# EAGLE library part ATTINY13 (library Kunosheru)
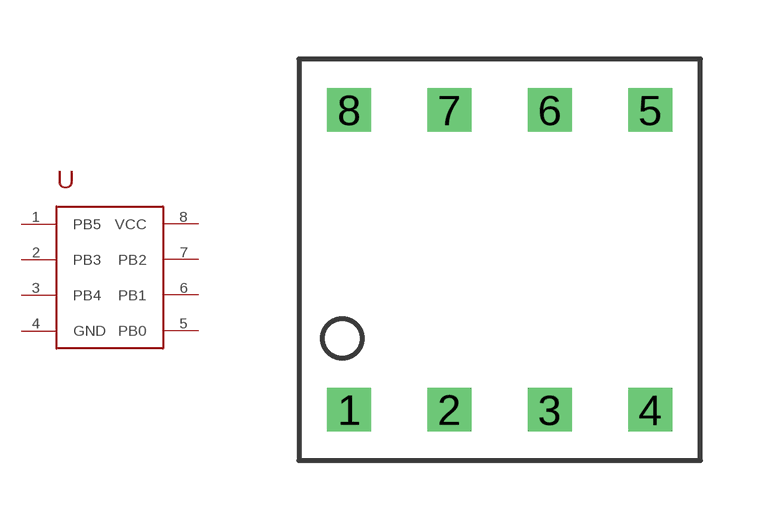
[diagram p2: symbol with the pads of SCS-8(DIP-8); footprint SCS-8(DIP-8)]

Designator prefix -

## ATTINY13  [SCS-8(DIP-8)]
1  PB5
2  PB3
3  PB4
4  GND
5  PB0
6  PB1
7  PB2
8  VCC

## Footprint SCS-8(DIP-8) (pad centres in mm)
drill 0.6 square: 1 -3.825,-3.81; 2 -1.275,-3.81; 3 1.275,-3.81; 4 3.825,-3.81; 5 3.825,3.81; 6 1.275,3.81; 7 -1.275,3.81; 8 -3.825,3.81